# Altium footprint library footprints.PCBLIB: 199 footprints (part 13 of 13)
Each footprint in its own frame and in the unit in brackets; x right, y up, seen from the top. Pads: shape width x height; smd on the part's side, far side on the other; paste and mask are expansions set on the pad; w line width, h text height; cw(c..) or ccw(c..) is an arc to the next point about the centre after c.
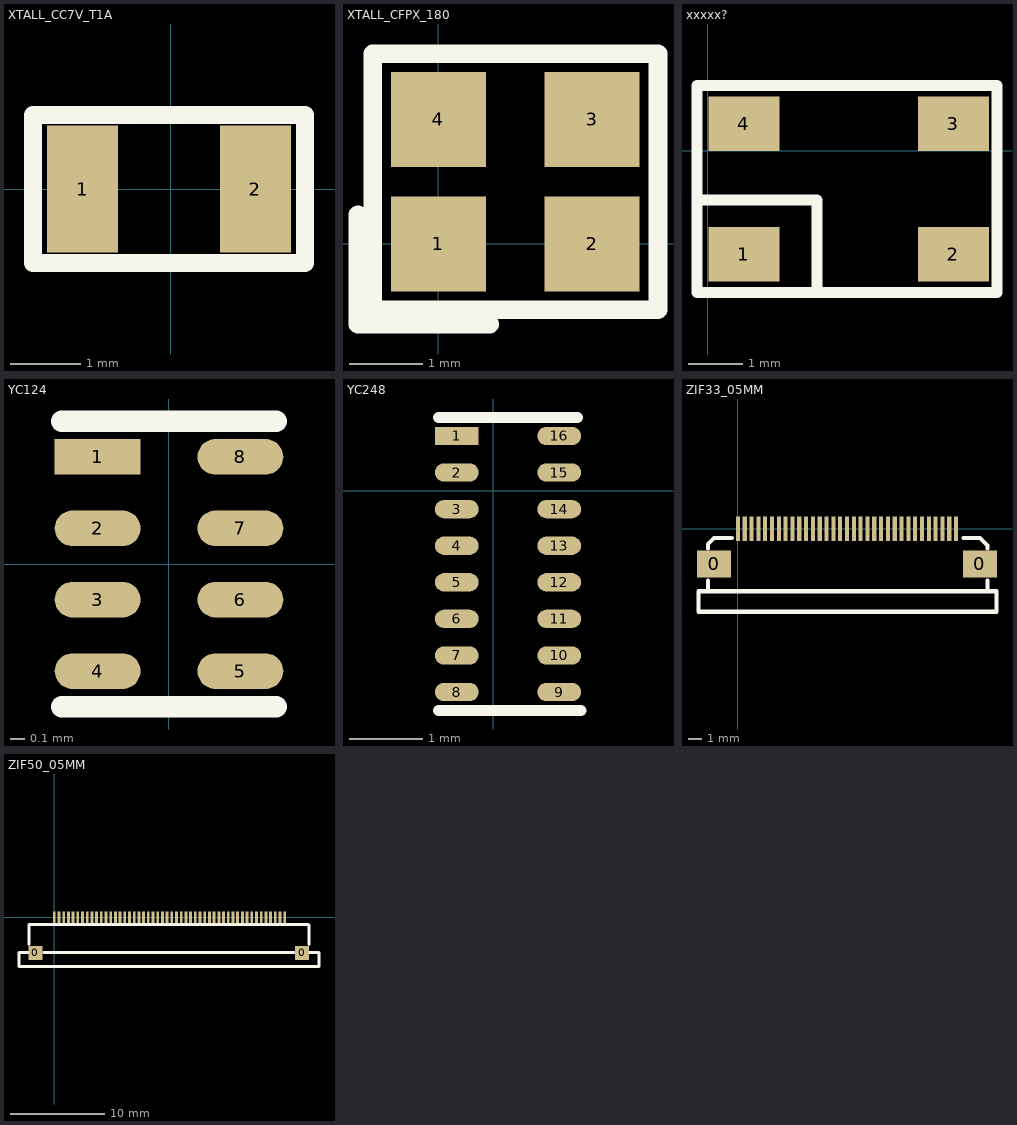
[diagram p12: the footprints below, top view; thin cyan lines are the x and y axes]

## XTALL_CC7V_T1A [mm]
pads (2):
  rect 1x1.8 smd: 1(-1.25,0) 2(1.2,0)
Top Overlay:
  lines w0.254: -1.95,-1.05 -1.95,1.05 -1.85,1.05 1.9,1.05 1.9,-1.05 -1.9,-1.05

## XTALL_CFPX_180 [mm]
pads (4):
  rect 1.3x1.3 smd: 1(0,0) 2(2.1,0) 3(2.1,1.7) 4(0,1.7)
Top Overlay:
  lines w0.254: -1.1,-0.2 -1.1,0.4 ; -1,-0.1 -1.1,-0.1 -1.1,-1.1 -0.2,-1.1 0.7,-1.1 ; -0.7,2.6 3,2.6 3,-0.9 -0.9,-0.9 -0.9,2.6 -0.6,2.6

## xxxxx? [mm]
pads (4):
  rect 1.3x1 smd: 1(0.66,-1.9) 2(4.5,-1.9) 3(4.5,0.5) 4(0.66,0.5)
Top Overlay:
  lines w0.2: -0.1,-0.9 2,-0.9 2,-2.5 ; -0.2,-2.6 5.3,-2.6 5.3,1.2 -0.2,1.2 -0.2,-2.6

## YC124 [mm]
pads (8):
  rect 0.6x0.25 smd: 1(-0.5,0.75)
  oval 0.6x0.25 smd: 2(-0.5,0.25) 3(-0.5,-0.25) 4(-0.5,-0.75) 5(0.5,-0.75) 6(0.5,-0.25) 7(0.5,0.25) 8(0.5,0.75)
Top Overlay:
  lines w0.15: -0.75,-1 0.75,-1 ; -0.75,1 0.75,1

## YC248 [mm]
pads (16):
  rect 0.6x0.25 smd: 1(-0.5,0.75)
  oval 0.6x0.25 smd: 2(-0.5,0.25) 3(-0.5,-0.25) 4(-0.5,-0.75) 5(-0.5,-1.25) 6(-0.5,-1.75) 7(-0.5,-2.25) 8(-0.5,-2.75) 9(0.9,-2.75) 10(0.9,-2.25) 11(0.9,-1.75) 12(0.9,-1.25) 13(0.9,-0.75) 14(0.9,-0.25) 15(0.9,0.25) 16(0.9,0.75)
Top Overlay:
  lines w0.15: -0.75,-3 1.2,-3 ; -0.75,1 1.15,1

## ZIF33_05MM [mm] "33-pin 0.5mm ZIF"
pads (35):
  rect 2.5x2 smd: 0(-1.75,-2.6) 0(17.75,-2.6)
  rect 0.3x1.8 smd: 1(16,0) 2(15.5,0) 3(15,0) 4(14.5,0) 5(14,0) 6(13.5,0) 7(13,0) 8(12.5,0) 9(12,0) 10(11.5,0) 11(11,0) 12(10.5,0) 13(10,0) 14(9.5,0) 15(9,0) 16(8.5,0) 17(8,0) 18(7.5,0) 19(7,0) 20(6.5,0) 21(6,0) 22(5.5,0) 23(5,0) 24(4.5,0) 25(4,0) 26(3.5,0) 27(3,0) 28(2.5,0) 29(2,0) 30(1.5,0) 31(1,0) 32(0.5,0) 33(0,0)
Top Overlay:
  lines w0.3: -2.9,-4.6 -2.9,-6.1 18.95,-6.1 18.95,-4.6 18.3,-4.6 ; -2.85,-4.6 18.65,-4.6 ; -2.2,-4.6 -2.2,-3.8 ; -2.2,-1.45 -2.2,-1.15 -1.75,-0.7 -0.45,-0.7 ; 16.55,-0.7 17.75,-0.7 18.3,-1.25 18.3,-1.45 ; 18.3,-4.55 18.3,-3.8 ; 18.3,-4.6 18.3,-4.6

## ZIF50_05MM [mm]
pads (52):
  rect 1.5x1.5 smd: 0(-2,-3.8) 0(26.35,-3.8)
  rect 0.3x1.2 smd: 1(0,0) 2(0.5,0) 3(1,0) 4(1.5,0) 5(2,0) 6(2.5,0) 7(3,0) 8(3.5,0) 9(4,0) 10(4.5,0) 11(5,0) 12(5.5,0) 13(6,0) 14(6.5,0) 15(7,0) 16(7.5,0) 17(8,0) 18(8.5,0) 19(9,0) 20(9.5,0) 21(10,0) 22(10.5,0) 23(11,0) 24(11.5,0) 25(12,0) 26(12.5,0) 27(13,0) 28(13.5,0) 29(14,0) 30(14.5,0) 31(15,0) 32(15.5,0) 33(16,0) 34(16.5,0) 35(17,0) 36(17.5,0) 37(18,0) 38(18.5,0) 39(19,0) 40(19.5,0) 41(20,0) 42(20.5,0) 43(21,0) 44(21.5,0) 45(22,0) 46(22.5,0) 47(23,0) 48(23.5,0) 49(24,0) 50(24.5,0)
Top Overlay:
  lines w0.3: -2.7,-3.75 -3.75,-3.75 -3.75,-5.25 28.15,-5.25 28.15,-3.75 27.1,-3.75 ; -2.7,-2.91 -2.7,-0.8 -2.35,-0.8 27.05,-0.8 27.1,-0.85 27.1,-2.92 ; -1.12,-3.75 25.48,-3.75